# EAGLE library part RJ45 (library myParts)
Regular one https://www.digikey.com.au/product-detail/en/assmann-wsw-components/A-2004-2-4-LP-S-R/AE10388-ND/2183639 Same as one from ali express too Slim one https://www.aliexpress.com/item/32974903992.html?spm=a2g0s.9042311.0.0.62954c4dfgLHeB
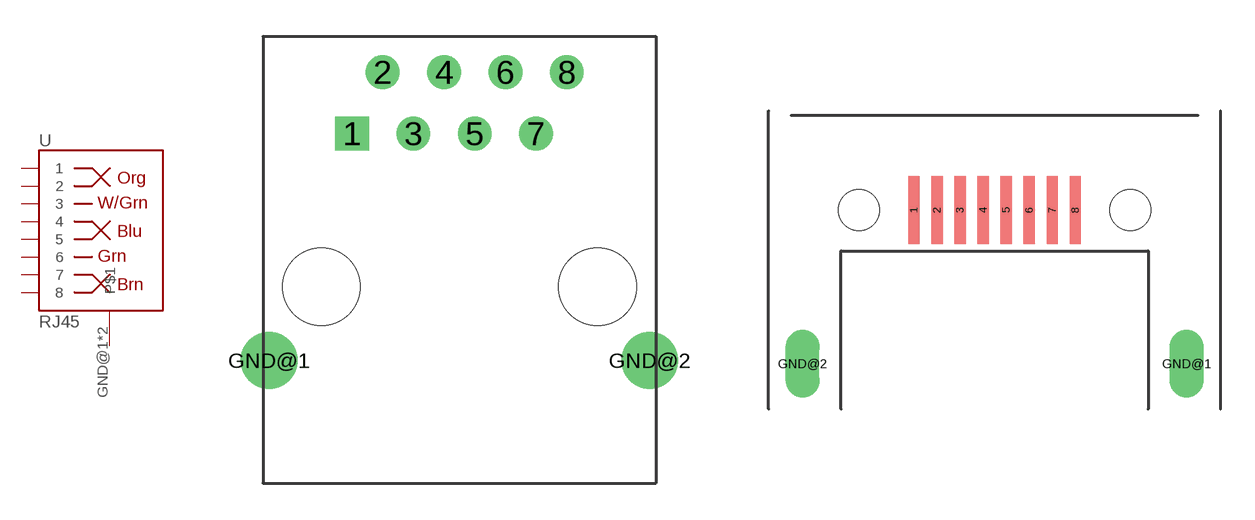
[diagram p1: symbol with the pads of RJ45_WINGS; footprints RJ45_WINGS, RJ45_SLIM]

Designator prefix -

## RJ45  [RJ45_WINGS]
1  1
2  2
3  3
4  4
5  5
6  6
7  7
8  8
GND@1  P$1  pwr
GND@2  P$1  pwr

## RJ45RJ45_SLIM  [RJ45_SLIM]
1  8
2  7
3  6
4  5
5  4
6  3
7  2
8  1
GND@1  P$1  pwr
GND@2  P$1  pwr

## Footprint RJ45_WINGS (pad centres in mm)
drill 0.89 square: 1 -4.445,6.35
drill 0.89: 2 -3.175,8.89; 3 -1.905,6.35; 4 -0.635,8.89; 5 0.635,6.35; 6 1.905,8.89; 7 3.175,6.35; 8 4.445,8.89
drill 1.57: GND@1 -7.875,-3.05; GND@2 7.875,-3.05
hole 3.2 at -5.715,0
hole 3.2 at 5.715,0

## Footprint RJ45_SLIM (pad centres in mm)
smd 0.5 x 3: 1 -3.57,6.8; 2 -2.55,6.8; 3 -1.53,6.8; 4 -0.51,6.8; 5 0.51,6.8; 6 1.53,6.8; 7 2.55,6.8; 8 3.57,6.8
drill 1 long: GND@1 8.5,0; GND@2 -8.5,0
hole 1.8 at -6,6.8
hole 1.8 at 6,6.8